# Altium schematic symbol library 769BI_LTDC.SchLib: 50 symbols
Pins are listed as number, name and electrical type; pins without a type are passive.

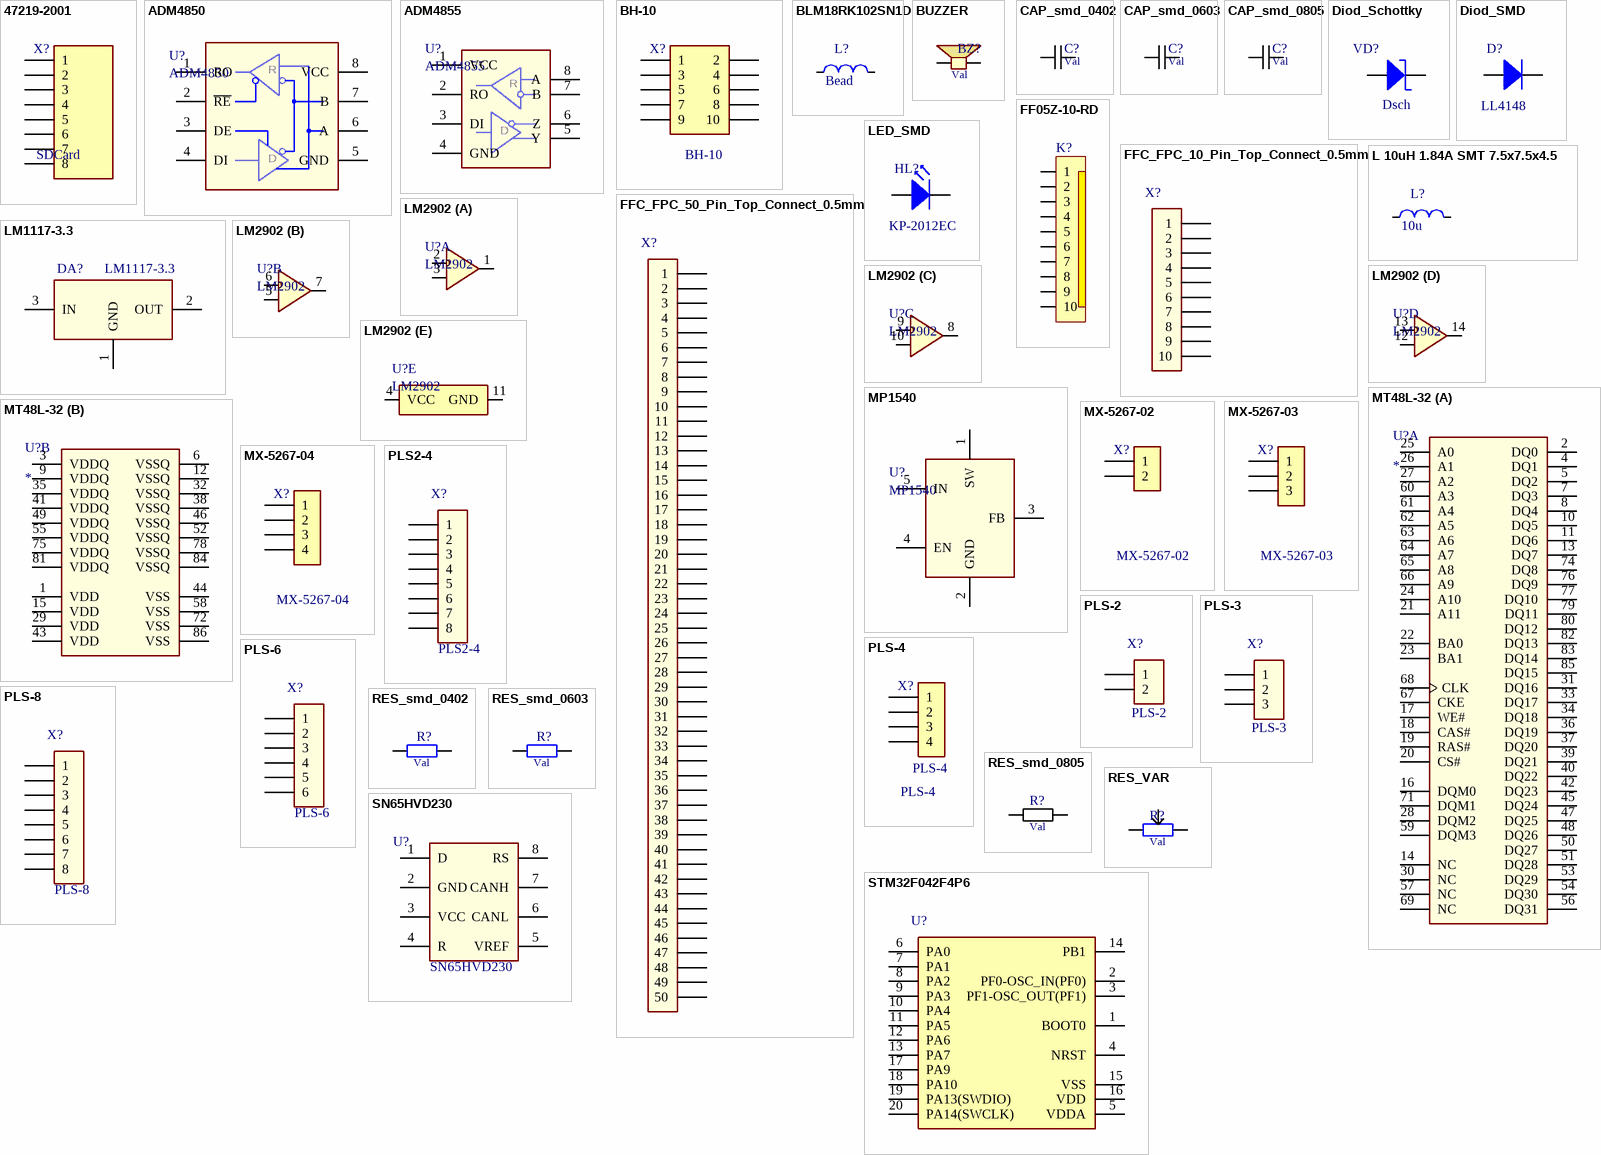
[diagram p0: symbols 47219-2001 to STM32F042F4P6]

## 47219-2001
designator X?, comment SDCard
SD_Card_Holder
footprint 47219-2001
pins: 1, 2, 3, 4, 5, 6, 7, 8

## ADM4850
designator U?
RS485-half
footprint SO8-150
pins: 1 RO, 2 ~{RE}, 3 DE, 4 DI, 5 GND, 6 A, 7 B, 8 VCC
text: R; D

## ADM4855
designator U?
RS485-full
footprint SO8-150
pins: 1 VCC, 2 RO, 3 DI, 4 GND, 5 Y, 6 Z, 7 B, 8 A
text: R; D

## BH-10
designator X?
Value: BH-10
footprint BH-10
pins: 1, 2, 3, 4, 5, 6, 7, 8, 9, 10

## BLM18RK102SN1D
designator L?, comment Bead
Ferrite Bead; Manufacturer 1: Coilcraft; Manufacturer Part Number 1: CDRH74NP-100MC/SUMIDA; Tolerance: ±20%; Operating temperature range: (-40 ... +85) °C; ComponentLink1Description: Datasheet; ComponentLink1URL: http://www.mouser.com/ds/2/390/CDRH74-514269.pdf; Supplier 1: Digikey; Value: Bead
footprint RES0603 (resistor 0603 reflow soldering)
pins: 1, 2

## BUZZER
designator BZ?, comment Val
BUZ; Value: Val
3D model Model Name (PCB3D Model)
pins: 1, 2

## CAP_smd_0402
designator C?, comment Val
Capacitor; Published: 8-Jun-2000; LatestRevisionDate: 17-Jul-2002; LatestRevisionNote: Re-released for DXP Platform.; PackageReference: RAD-0.3; Publisher: Altium Limited; PackageDescription: Radial Cap, Thru-Hole; 2 Leads; 0.3 in Pin Spacing; Value: Val
simulation model CAP (Capacitor)
signal-integrity model Cap
footprint CAP0402 (Capacitor 0402 reflow soldering)
pins: 1, 2

## CAP_smd_0603
designator C?, comment Val
Capacitor; Published: 8-Jun-2000; LatestRevisionDate: 17-Jul-2002; LatestRevisionNote: Re-released for DXP Platform.; PackageReference: RAD-0.3; Publisher: Altium Limited; PackageDescription: Radial Cap, Thru-Hole; 2 Leads; 0.3 in Pin Spacing; Value: Val
simulation model CAP (Capacitor)
signal-integrity model Cap
footprint CAP0603 (capacitor 0603 reflow soldering)
pins: 1, 2

## CAP_smd_0805
designator C?, comment Val
Capacitor; Published: 8-Jun-2000; LatestRevisionDate: 17-Jul-2002; LatestRevisionNote: Re-released for DXP Platform.; PackageReference: RAD-0.3; Publisher: Altium Limited; PackageDescription: Radial Cap, Thru-Hole; 2 Leads; 0.3 in Pin Spacing; Value: Val
simulation model CAP (Capacitor)
signal-integrity model Cap
footprint CAP0805 (capacitor 0805 reflow soldering)
pins: 1, 2

## Diod_Schottky
designator VD?  value Dsch
5.0 Amp Schottky Rectifier; Manufacturer 1: Micro Commercial Co; Manufacturer Part Number 1: SK55AFL-TP; ComponentLink1Description: Datasheet; ComponentLink1URL: http://www.mccsemi.com/up_pdf/SK52AFL-SK5200AFL(DO-221AC).pdf; Operating temperature range: (-55 ... +125) °C; Supplier 1: Digikey; Supplier Part Number 1: SK55AFL-TPMSDKR-ND; Supplier Unit Price 1: 1=0.63, 10=0.527, 25=0.462, 100=0.3955, 250=0.34304, 500=0.29056, 1000=0.224 (USD)
footprint SK55AFL-TP_LOW (Footprint not found)
footprint SK55AFL-TP_MED (Footprint not found)
footprint SK55AFL-TP_HI (Footprint not found)
footprint SK55AFL-TP_LOW (SODFL, 2-Leads, Body 2,60x5,00mm, IPC Low Density)
pins: 1 CA, 2 AN

## Diod_SMD
designator D?, comment LL4148
Manufacturer 1: Kingbright; Manufacturer Part Number 1: APT2012CGCK; ComponentLink1Description: Datasheet; ComponentLink1URL: http://www.kingbrightusa.com/images/catalog/SPEC/APT2012CGCK.pdf; Operating temperature range: (-40 ... +85) °C; Supplier 1: Digikey; Supplier Part Number 1: 754-1127-6-ND; Supplier Unit Price 1: 1=0.47, 10=0.35, 25=0.28, 100=0.1855, 250=0.13124, 500=0.11200, 1000=0.08750 (USD); Type: LL4148
footprint SOD-80
footprint SOD-80
pins: 1 AN, 2 CA

## FF05Z-10-RD
designator K?
CF20 0.5mm; Price: 0.33
footprint FF05Z-10-RD
footprint FF10Z-10-RU
pins: 0 hidden to Gnd, 0 hidden to gnd, 0 hidden to gnd, 1, 2, 3, 4, 5, 6, 7, 8, 9, 10
1 alternate drawing of the same symbol

## FFC_FPC_10_Pin_Top_Connect_0.5mm
designator X?
Touch panel connector
footprint FPC10
pins: 1, 2, 3, 4, 5, 6, 7, 8, 9, 10

## FFC_FPC_50_Pin_Top_Connect_0.5mm
designator X?
LCD TFT connector
footprint FPC50
pins: 1, 2, 3, 4, 5, 6, 7, 8, 9, 10, 11, 12, 13, 14, 15, 16, 17, 18, 19, 20, 21, 22, 23, 24, 25, 26, 27, 28, 29, 30, 31, 32, 33, 34, 35, 36, 37, 38, 39, 40, 41, 42, 43, 44, 45, 46, 47, 48, 49, 50

## L 10uH 1.84A SMT 7.5x7.5x4.5
designator L?, comment 10u
CDRH74NP-100MC/SUMIDA; Manufacturer 1: Coilcraft; Tolerance: ±20%; Operating temperature range: (-40 ... +85) °C; Manufacturer Part Number 1: CDRH74NP-100MC/SUMIDA; ComponentLink1Description: Datasheet; ComponentLink1URL: http://www.mouser.com/ds/2/390/CDRH74-514269.pdf; Supplier 1: Digikey; Value: 10u
footprint L_CDRH74-100
pins: 1, 2

## LED_SMD
designator HL?, comment KP-2012EC
LED_SMD; Manufacturer 1: Kingbright; Manufacturer Part Number 1: APT2012CGCK; ComponentLink1Description: Datasheet; ComponentLink1URL: http://www.kingbrightusa.com/images/catalog/SPEC/APT2012CGCK.pdf; Operating temperature range: (-40 ... +85) °C; Supplier 1: Digikey; Supplier Part Number 1: 754-1127-6-ND; Supplier Unit Price 1: 1=0.47, 10=0.35, 25=0.28, 100=0.1855, 250=0.13124, 500=0.11200, 1000=0.08750 (USD); Type: KP-2012EC
footprint LED
pins: 1 AN, 2 CA

## LM1117-3.3
designator DA?
Type: LM1117-3.3
footprint SOT233 (SOT223 4-Leads)
pins: 1 GND, 2 OUT (power), 3 IN (power)

## LM2902
designator U?
OA
footprint SO14-150
part A pins: 1, 2, 3
part B pins: 5, 6, 7
part C pins: 8, 9, 10
part D pins: 12, 13, 14
part E pins: 4 VCC, 11 GND

## MP1540
designator U?
footprint SOT23-5 (SOT23, 5-Leads, Body 2.9x1.3mm, Pitch 0.95mm, Lead Span 2.5mm)
pins: 1 SW, 2 GND, 3 FB, 4 EN, 5 IN

## MT48L-32
designator U?
256Mb PC133 SDR SDRAM, 16Mb x 16, 7.5ns, 3.3V, 0 to 70 degC, 54-Pin TSOP; Manufacturer: Micron; PartNumber: MT48LC16M16A2TG-75; CL: CL = 3; Clock Rate: 133 MHz; Op. Temp.: 0C to +70C; DatasheetVersion: Rev.Q; PackageVersion: Rev.Q; PackageReference: MICT-TG-54; PackageDescription: 54-Pin Thin Small Outline Package, 10.16 x 22.22 mm, Pitch 0.8 mm; Cycle Time: 7.5ns; Data Rate: PC133; Density: 256Mb; Depth: 16Mb; RoHS: 5/6; Voltage: 3.3V; Width: x16; Mounting Technology: Surface Mount; ComponentLink1Description: Manufacturer URL; ComponentLink1URL: http://www.micron.com/; ComponentLink2Description: Datasheet; ComponentLink2URL: http://www.micron.com/~/media/Documents/Products/Data%20Sheet/DRAM/256Mb_sdr.pdf; ComponentLink3Description: Package Specification; ComponentLink3URL: http://www.micron.com/~/media/Documents/Products/Data%20Sheet/DRAM/256Mb_sdr.pdf
footprint MICT-P-86_N (SOP, 86-Leads, Body 22.22x10.6mm, Pitch 0.5mm, , IPC Medium Density)
part A pins: 2 DQ0 "Data bus for x16 (pins 4, 7, 10, 13, 15, 42, 45, 48, and 51 are NC for x8; and pins 2, 4, 7, 8, 10, 13, 15, 42, 45, 47, 48, 51, and 53 are NC for x4).", 4 DQ1 "Data bus for x16 (pins 4, 7, 10, 13, 15, 42, 45, 48, and 51 are NC for x8; and pins 2, 4, 7, 8, 10, 13, 15, 42, 45, 47, 48, 51, and 53 are NC for x4).", 5 DQ2 "Data bus for x16 (pins 4, 7, 10, 13, 15, 42, 45, 48, and 51 are NC for x8; and pins 2, 4, 7, 8, 10, 13, 15, 42, 45, 47, 48, 51, and 53 are NC for x4).", 7 DQ3 "Data bus for x16 (pins 4, 7, 10, 13, 15, 42, 45, 48, and 51 are NC for x8; and pins 2, 4, 7, 8, 10, 13, 15, 42, 45, 47, 48, 51, and 53 are NC for x4).", 8 DQ4 "Data bus for x16 (pins 4, 7, 10, 13, 15, 42, 45, 48, and 51 are NC for x8; and pins 2, 4, 7, 8, 10, 13, 15, 42, 45, 47, 48, 51, and 53 are NC for x4).", 10 DQ5 "Data bus for x16 (pins 4, 7, 10, 13, 15, 42, 45, 48, and 51 are NC for x8; and pins 2, 4, 7, 8, 10, 13, 15, 42, 45, 47, 48, 51, and 53 are NC for x4).", 11 DQ6 "Data bus for x16 (pins 4, 7, 10, 13, 15, 42, 45, 48, and 51 are NC for x8; and pins 2, 4, 7, 8, 10, 13, 15, 42, 45, 47, 48, 51, and 53 are NC for x4).", 13 DQ7 "Data bus for x16 (pins 4, 7, 10, 13, 15, 42, 45, 48, and 51 are NC for x8; and pins 2, 4, 7, 8, 10, 13, 15, 42, 45, 47, 48, 51, and 53 are NC for x4).", 14 NC "These should be left unconnected", 16 DQM0 "Onthe x16, DQML corresponds to DQ[7:0], and DQMH corresponds to DQ[15:8]. DQML andDQMH are considered same state when referenced as DQM", 17 WE# "define the command being entered", 18 CAS# "define the command being entered", 19 RAS# "define the command being entered", 20 CS# "CS# enables (registered LOW) and disables (registered HIGH) the command decoder. All commands are masked when CS# is registered HIGH, but READ/WRITE bursts already in progress will continue, and DQM operation will retain its (See Datasheet)", 21 A11 "A[12:0] are sampled during the ACTIVE command (row address A[12:0]) andREAD or WRITE command (column address A[9:0], A11, and A12 for x4; A[9:0] and A11 for x8; A[9:0] for x16; with A10 defining auto precharge) to select one (See Datasheet)", 22 BA0 "BA[1:0] define to which bank the ACTIVE, READ, WRITE, or PRECHARGE command is being applied.", 23 BA1 "BA[1:0] define to which bank the ACTIVE, READ, WRITE, or PRECHARGE command is being applied.", 24 A10 "A[12:0] are sampled during the ACTIVE command (row address A[12:0]) andREAD or WRITE command (column address A[9:0], A11, and A12 for x4; A[9:0] and A11 for x8; A[9:0] for x16; with A10 defining auto precharge) to select one (See Datasheet)", 25 A0 "A[12:0] are sampled during the ACTIVE command (row address A[12:0]) andREAD or WRITE command (column address A[9:0], A11, and A12 for x4; A[9:0] and A11 for x8; A[9:0] for x16; with A10 defining auto precharge) to select one (See Datasheet)", 26 A1 "A[12:0] are sampled during the ACTIVE command (row address A[12:0]) andREAD or WRITE command (column address A[9:0], A11, and A12 for x4; A[9:0] and A11 for x8; A[9:0] for x16; with A10 defining auto precharge) to select one (See Datasheet)", 27 A2 "A[12:0] are sampled during the ACTIVE command (row address A[12:0]) andREAD or WRITE command (column address A[9:0], A11, and A12 for x4; A[9:0] and A11 for x8; A[9:0] for x16; with A10 defining auto precharge) to select one (See Datasheet)", 28 DQM2 "Onthe x16, DQML corresponds to DQ[7:0], and DQMH corresponds to DQ[15:8]. DQML andDQMH are considered same state when referenced as DQM", 30 NC "These should be left unconnected", 31 DQ16 "Data bus for x16 (pins 4, 7, 10, 13, 15, 42, 45, 48, and 51 are NC for x8; and pins 2, 4, 7, 8, 10, 13, 15, 42, 45, 47, 48, 51, and 53 are NC for x4).", 33 DQ17 "Data bus for x16 (pins 4, 7, 10, 13, 15, 42, 45, 48, and 51 are NC for x8; and pins 2, 4, 7, 8, 10, 13, 15, 42, 45, 47, 48, 51, and 53 are NC for x4).", 34 DQ18 "Data bus for x16 (pins 4, 7, 10, 13, 15, 42, 45, 48, and 51 are NC for x8; and pins 2, 4, 7, 8, 10, 13, 15, 42, 45, 47, 48, 51, and 53 are NC for x4).", 36 DQ19 "Data bus for x16 (pins 4, 7, 10, 13, 15, 42, 45, 48, and 51 are NC for x8; and pins 2, 4, 7, 8, 10, 13, 15, 42, 45, 47, 48, 51, and 53 are NC for x4).", 37 DQ20 "Data bus for x16 (pins 4, 7, 10, 13, 15, 42, 45, 48, and 51 are NC for x8; and pins 2, 4, 7, 8, 10, 13, 15, 42, 45, 47, 48, 51, and 53 are NC for x4).", 39 DQ21 "Data bus for x16 (pins 4, 7, 10, 13, 15, 42, 45, 48, and 51 are NC for x8; and pins 2, 4, 7, 8, 10, 13, 15, 42, 45, 47, 48, 51, and 53 are NC for x4).", 40 DQ22 "Data bus for x16 (pins 4, 7, 10, 13, 15, 42, 45, 48, and 51 are NC for x8; and pins 2, 4, 7, 8, 10, 13, 15, 42, 45, 47, 48, 51, and 53 are NC for x4).", 42 DQ23 "Data bus for x16 (pins 4, 7, 10, 13, 15, 42, 45, 48, and 51 are NC for x8; and pins 2, 4, 7, 8, 10, 13, 15, 42, 45, 47, 48, 51, and 53 are NC for x4).", 45 DQ24 "Data bus for x16 (pins 4, 7, 10, 13, 15, 42, 45, 48, and 51 are NC for x8; and pins 2, 4, 7, 8, 10, 13, 15, 42, 45, 47, 48, 51, and 53 are NC for x4).", 47 DQ25 "Data bus for x16 (pins 4, 7, 10, 13, 15, 42, 45, 48, and 51 are NC for x8; and pins 2, 4, 7, 8, 10, 13, 15, 42, 45, 47, 48, 51, and 53 are NC for x4).", 48 DQ26 "Data bus for x16 (pins 4, 7, 10, 13, 15, 42, 45, 48, and 51 are NC for x8; and pins 2, 4, 7, 8, 10, 13, 15, 42, 45, 47, 48, 51, and 53 are NC for x4).", 50 DQ27 "Data bus for x16 (pins 4, 7, 10, 13, 15, 42, 45, 48, and 51 are NC for x8; and pins 2, 4, 7, 8, 10, 13, 15, 42, 45, 47, 48, 51, and 53 are NC for x4).", 51 DQ28 "Data bus for x16 (pins 4, 7, 10, 13, 15, 42, 45, 48, and 51 are NC for x8; and pins 2, 4, 7, 8, 10, 13, 15, 42, 45, 47, 48, 51, and 53 are NC for x4).", 53 DQ29 "Data bus for x16 (pins 4, 7, 10, 13, 15, 42, 45, 48, and 51 are NC for x8; and pins 2, 4, 7, 8, 10, 13, 15, 42, 45, 47, 48, 51, and 53 are NC for x4).", 54 DQ30 "Data bus for x16 (pins 4, 7, 10, 13, 15, 42, 45, 48, and 51 are NC for x8; and pins 2, 4, 7, 8, 10, 13, 15, 42, 45, 47, 48, 51, and 53 are NC for x4).", 56 DQ31 "Data bus for x16 (pins 4, 7, 10, 13, 15, 42, 45, 48, and 51 are NC for x8; and pins 2, 4, 7, 8, 10, 13, 15, 42, 45, 47, 48, 51, and 53 are NC for x4).", 57 NC "These should be left unconnected", 59 DQM3 "Onthe x16, DQML corresponds to DQ[7:0], and DQMH corresponds to DQ[15:8]. DQML andDQMH are considered same state when referenced as DQM", 60 A3 "A[12:0] are sampled during the ACTIVE command (row address A[12:0]) andREAD or WRITE command (column address A[9:0], A11, and A12 for x4; A[9:0] and A11 for x8; A[9:0] for x16; with A10 defining auto precharge) to select one (See Datasheet)", 61 A4 "A[12:0] are sampled during the ACTIVE command (row address A[12:0]) andREAD or WRITE command (column address A[9:0], A11, and A12 for x4; A[9:0] and A11 for x8; A[9:0] for x16; with A10 defining auto precharge) to select one (See Datasheet)", 62 A5 "A[12:0] are sampled during the ACTIVE command (row address A[12:0]) andREAD or WRITE command (column address A[9:0], A11, and A12 for x4; A[9:0] and A11 for x8; A[9:0] for x16; with A10 defining auto precharge) to select one (See Datasheet)", 63 A6 "A[12:0] are sampled during the ACTIVE command (row address A[12:0]) andREAD or WRITE command (column address A[9:0], A11, and A12 for x4; A[9:0] and A11 for x8; A[9:0] for x16; with A10 defining auto precharge) to select one (See Datasheet)", 64 A7 "A[12:0] are sampled during the ACTIVE command (row address A[12:0]) andREAD or WRITE command (column address A[9:0], A11, and A12 for x4; A[9:0] and A11 for x8; A[9:0] for x16; with A10 defining auto precharge) to select one (See Datasheet)", 65 A8 "A[12:0] are sampled during the ACTIVE command (row address A[12:0]) andREAD or WRITE command (column address A[9:0], A11, and A12 for x4; A[9:0] and A11 for x8; A[9:0] for x16; with A10 defining auto precharge) to select one (See Datasheet)", 66 A9 "A[12:0] are sampled during the ACTIVE command (row address A[12:0]) andREAD or WRITE command (column address A[9:0], A11, and A12 for x4; A[9:0] and A11 for x8; A[9:0] for x16; with A10 defining auto precharge) to select one (See Datasheet)", 67 CKE "CKE activates (HIGH) and deactivates (LOW) the CLK signal. Deactivating theclock provides precharge power-down and SELF REFRESH operation (all banks idle), activepower-down (row active in any bank), or CLOCK SUSPEND (See Datasheet)", 68 CLK "CLK is driven by the system clock. All SDRAM input signals are sampled on the positive edge of CLK. CLK also increments the internal burst counter and controls the output registers", 69 NC "These should be left unconnected", 71 DQM1 "Onthe x16, DQML corresponds to DQ[7:0], and DQMH corresponds to DQ[15:8]. DQML andDQMH are considered same state when referenced as DQM", 74 DQ8 "Data bus for x16 (pins 4, 7, 10, 13, 15, 42, 45, 48, and 51 are NC for x8; and pins 2, 4, 7, 8, 10, 13, 15, 42, 45, 47, 48, 51, and 53 are NC for x4).", 76 DQ9 "Data bus for x16 (pins 4, 7, 10, 13, 15, 42, 45, 48, and 51 are NC for x8; and pins 2, 4, 7, 8, 10, 13, 15, 42, 45, 47, 48, 51, and 53 are NC for x4).", 77 DQ10 "Data bus for x16 (pins 4, 7, 10, 13, 15, 42, 45, 48, and 51 are NC for x8; and pins 2, 4, 7, 8, 10, 13, 15, 42, 45, 47, 48, 51, and 53 are NC for x4).", 79 DQ11 "Data bus for x16 (pins 4, 7, 10, 13, 15, 42, 45, 48, and 51 are NC for x8; and pins 2, 4, 7, 8, 10, 13, 15, 42, 45, 47, 48, 51, and 53 are NC for x4).", 80 DQ12 "Data bus for x16 (pins 4, 7, 10, 13, 15, 42, 45, 48, and 51 are NC for x8; and pins 2, 4, 7, 8, 10, 13, 15, 42, 45, 47, 48, 51, and 53 are NC for x4).", 82 DQ13 "Data bus for x16 (pins 4, 7, 10, 13, 15, 42, 45, 48, and 51 are NC for x8; and pins 2, 4, 7, 8, 10, 13, 15, 42, 45, 47, 48, 51, and 53 are NC for x4).", 83 DQ14 "Data bus for x16 (pins 4, 7, 10, 13, 15, 42, 45, 48, and 51 are NC for x8; and pins 2, 4, 7, 8, 10, 13, 15, 42, 45, 47, 48, 51, and 53 are NC for x4).", 85 DQ15 "Data bus for x16 (pins 4, 7, 10, 13, 15, 42, 45, 48, and 51 are NC for x8; and pins 2, 4, 7, 8, 10, 13, 15, 42, 45, 47, 48, 51, and 53 are NC for x4)."
part B pins: 1 VDD (power) "+3.3V +/-0.3V.", 3 VDDQ (power) "DQ power to the die for improved noise immunity", 6 VSSQ (power) "DQ ground to the die for improved noise immunity", 9 VDDQ (power) "DQ power to the die for improved noise immunity", 12 VSSQ (power) "DQ ground to the die for improved noise immunity", 15 VDD (power) "+3.3V +/-0.3V.", 29 VDD (power) "+3.3V +/-0.3V.", 32 VSSQ (power) "DQ ground to the die for improved noise immunity", 35 VDDQ (power) "DQ power to the die for improved noise immunity", 38 VSSQ (power) "DQ ground to the die for improved noise immunity", 41 VDDQ (power) "DQ power to the die for improved noise immunity", 43 VDD (power) "+3.3V +/-0.3V.", 44 VSS (power) "Ground", 46 VSSQ (power) "DQ ground to the die for improved noise immunity", 49 VDDQ (power) "DQ power to the die for improved noise immunity", 52 VSSQ (power) "DQ ground to the die for improved noise immunity", 55 VDDQ (power) "DQ power to the die for improved noise immunity", 58 VSS (power) "Ground", 72 VSS (power) "Ground", 75 VDDQ (power) "DQ power to the die for improved noise immunity", 78 VSSQ (power) "DQ ground to the die for improved noise immunity", 81 VDDQ (power) "DQ power to the die for improved noise immunity", 84 VSSQ (power) "DQ ground to the die for improved noise immunity", 86 VSS (power) "Ground"

## MX-5267-02
designator X?
Molex_2pin
footprint MX-5267-02
pins: 1, 2

## MX-5267-03
designator X?
Molex_3pin
footprint MX-5267-03
pins: 1, 2, 3

## MX-5267-04
designator X?
Molex_4pin
footprint MX-5267-04
pins: 1, 2, 3, 4

## PLS2-4
designator X?
Type: PLS2-4
footprint PLS2x4
pins: 1, 2, 3, 4, 5, 6, 7, 8

## PLS-2
designator X?  value PLS-2
PLS-2
footprint PLC-2
pins: 1, 2

## PLS-3
designator X?  value PLS-3
PLS-3
footprint PLC-3
pins: 1, 2, 3

## PLS-4
designator X?
Value: PLS-4
footprint PLC-4
pins: 1, 2, 3, 4

## PLS-6
designator X?
Type: PLS-6
footprint PLC-6
pins: 1, 2, 3, 4, 5, 6

## PLS-8
designator X?
Type: PLS-8
footprint PLC-8
pins: 1, 2, 3, 4, 5, 6, 7, 8

## RES_smd_0402
designator R?, comment Val
Resistor; Published: 8-Jun-2000; LatestRevisionNote: Re-released for DXP Platform.; PackageReference: AXIAL-0.4; Publisher: Altium Limited; PackageDescription: Axial Device, Thru-Hole; 2 Leads; 0.4 in Pin Spacing; LatestRevisionDate: 17-Jul-2002; Value: Val
simulation model RESISTOR (Resistor)
signal-integrity model Res
footprint RES0402 (resistor 0402 reflow soldering)
pins: 1, 2

## RES_smd_0603
designator R?, comment Val
Resistor; Published: 8-Jun-2000; LatestRevisionNote: Re-released for DXP Platform.; PackageReference: AXIAL-0.4; Publisher: Altium Limited; PackageDescription: Axial Device, Thru-Hole; 2 Leads; 0.4 in Pin Spacing; LatestRevisionDate: 17-Jul-2002; Value: Val
simulation model RESISTOR (Resistor)
signal-integrity model Res
footprint RES0603 (resistor 0603 reflow soldering)
pins: 1, 2

## RES_smd_0805
designator R?, comment Val
Resistor; Value: Val
footprint RES0805 (resistor 0805 wave soldering)
pins: 1, 2

## RES_VAR
designator R?, comment Val
Resistor; Value: Val
simulation model RESISTOR (Resistor)
signal-integrity model Res
footprint RES_VAR
pins: 1, 2, 3

## SN65HVD230
designator U?  value SN65HVD230  (hidden comment: *)
CAN_driver
footprint SO8-150
pins: 1 D, 2 GND, 3 VCC, 4 R, 5 VREF, 6 CANL, 7 CANH, 8 RS

## STM32F042F4P6
designator U?
ARM Cortex-M0 32-bit MCU, 16 KB Flash, 4 KB Internal RAM, 15 I/Os, 20-pin TSSOP, -40 to 85 degC, Tube; PartNumber: STM32F030F4P6; FLASH Size (Prog) (kB): 16; I/Os (High Current): 15; Internal RAM Size (kB): 4; Operating Frequency(F) (Processor speed) (MHz): 48; Supply Voltage(Vcc) min (V): 2.4; DatasheetVersion: Rev. 1; PackageVersion: Rev. 1, 11/2012; PackageReference: TSSOP20; PackageDescription: 20-Pin Thin Shrink Small Outline Package, 6.5 x 4.4 mm Body, 0.65 mm Pitch; Supplier 1: Digi-Key; Supplier Part Number 1: 497-14044-5-ND; Supplier 2: Newark; Supplier Part Number 2: 06X3648; Supplier 3: Mouser; Supplier Part Number 3: 511-STM32F030F4P6; Core: ARM Cortex-M0; Packing: Tube; Mounting Technology: Surface Mount; ComponentLink1Description: Manufacturer URL; ComponentLink1URL: http://www.st.com/web/en/home.html; ComponentLink2Description: Datasheet; ComponentLink2URL: http://www.st.com/st-web-ui/static/active/en/resource/technical/document/datasheet/DM00088500.pdf; ComponentLink3Description: Package Specification; ComponentLink3URL: http://www.st.com/st-web-ui/static/active/en/resource/technical/document/datasheet/DM00065136.pdf
footprint STM-TSSOP20_M (SOP, 20-Leads, Body 6.6x4.5mm, Pitch 0.65mm, IPC Low Density)
pins: 1 BOOT0 "Boot memory selection", 2 PF0-OSC_IN(PF0) "PF0-OSC_IN(PF0)/OSC_IN", 3 PF1-OSC_OUT(PF1) "PF1-OSC_OUT(PF1)/OSC_OUT", 4 NRST "Device reset input / internal reset output (active low)", 5 VDDA (power) "Analog power supply", 6 PA0 "PA0/USART1_CTS/ADC_IN0,RTC_TAMP2,WKUP1", 7 PA1 "PA1/USART1_RTS,EVENTOUT/ADC_IN1", 8 PA2 "PA2/USART1_TX/ADC_IN2", 9 PA3 "PA3/USART1_RX/ADC_IN3", 10 PA4 "PA4/SPI1_NSS,USART1_CK,TIM14_CH1/ADC_IN4", 11 PA5 "PA5/SPI1_SCK/ADC_IN5", 12 PA6 "PA6/SPI1_MISO,TIM3_CH1,TIM1_BKIN,TIM16_CH1,EVENTOUT/ADC_IN6", 13 PA7 "PA7/SPI1_MOSI,TIM3_CH2,TIM14_CH1,TIM1_CH1N,TIM17_CH1,EVENTOUT/ADC_IN7", 14 PB1 "PB1/TIM3_CH4,TIM14_CH1,TIM1_CH3N/ADC_IN9", 15 VSS (power) "Ground", 16 VDD (power) "Digital power supply", 17 PA9 "PA9/USART1_TX,TIM1_CH2,I2C1_SCL", 18 PA10 "PA10/USART1_RX,TIM1_CH3,TIM17_BKIN,I2C1_SDA", 19 PA13(SWDIO) "PA13(SWDIO)/IR_OUT,SWDIO", 20 PA14(SWCLK) "PA14(SWCLK)/USART1_TX,SWCLK"

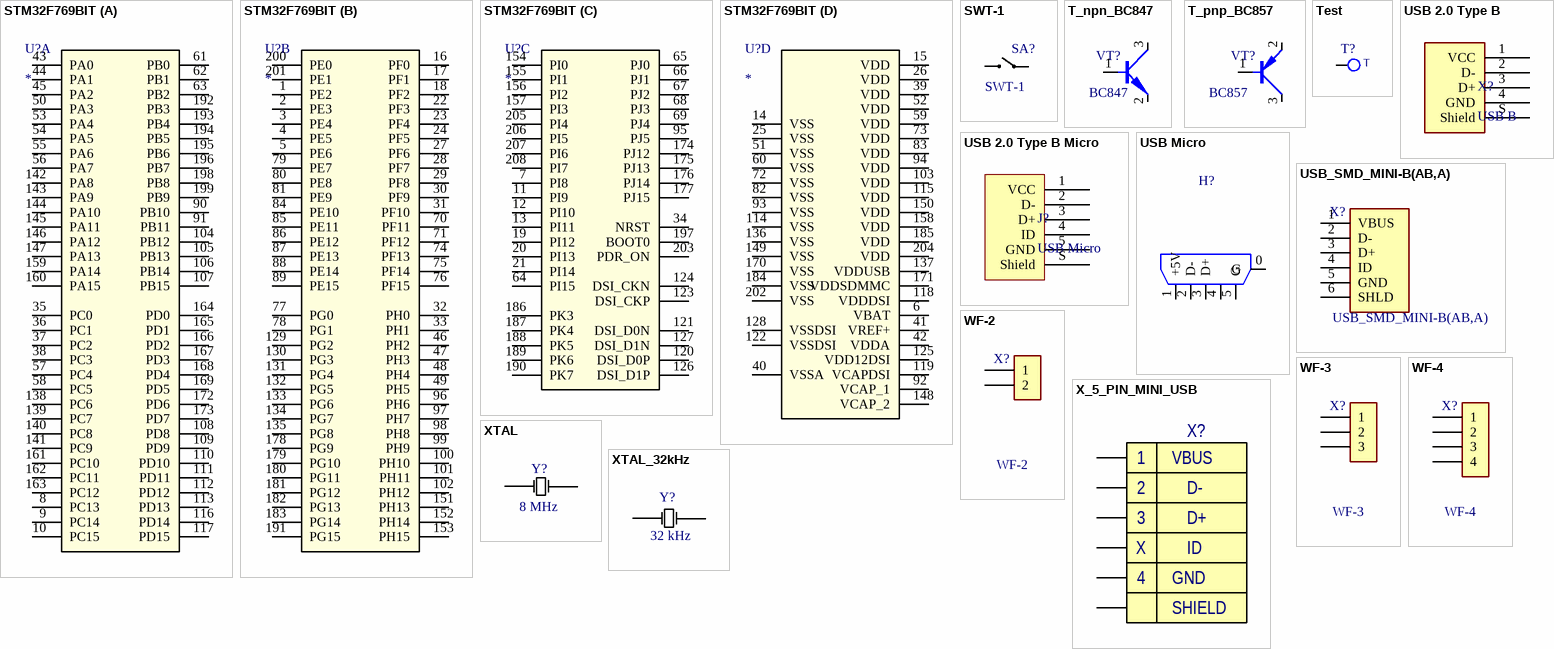
[diagram p1: symbols STM32F769BIT to XTAL_32kHz]

## STM32F769BIT
designator U?
STM32F769BI; Manufacturer_Part_Number: stm32f769bxt; Vendor: STMicroelectronics; C: Copyright (C) 2016 Accelerated Designs. All rights reserved; Copyright: Copyright (C) 2016 Accelerated Designs. All rights reserved; Value: Value; Type: Type; RefDes: RefDes
footprint STM-LQFP208_M (QFP, 208-Leads, Body 28x28mm, Pitch 0.5mm, IPC Low Density)
part A pins: 8 PC13, 9 PC14, 10 PC15, 35 PC0, 36 PC1, 37 PC2, 38 PC3, 43 PA0, 44 PA1, 45 PA2, 50 PA3, 53 PA4, 54 PA5, 55 PA6, 56 PA7, 57 PC4, 58 PC5, 61 PB0, 62 PB1, 63 PB2, 90 PB10, 91 PB11, 104 PB12, 105 PB13, 106 PB14, 107 PB15, 108 PD8, 109 PD9, 110 PD10, 111 PD11, 112 PD12, 113 PD13, 116 PD14, 117 PD15, 138 PC6, 139 PC7, 140 PC8, 141 PC9, 142 PA8, 143 PA9, 144 PA10, 145 PA11, 146 PA12, 147 PA13, 159 PA14, 160 PA15, 161 PC10, 162 PC11, 163 PC12, 164 PD0, 165 PD1, 166 PD2, 167 PD3, 168 PD4, 169 PD5, 172 PD6, 173 PD7, 192 PB3, 193 PB4, 194 PB5, 195 PB6, 196 PB7, 198 PB8, 199 PB9
part B pins: 1 PE2, 2 PE3, 3 PE4, 4 PE5, 5 PE6, 16 PF0, 17 PF1, 18 PF2, 22 PF3, 23 PF4, 24 PF5, 27 PF6, 28 PF7, 29 PF8, 30 PF9, 31 PF10, 32 PH0, 33 PH1, 46 PH2, 47 PH3, 48 PH4, 49 PH5, 70 PF11, 71 PF12, 74 PF13, 75 PF14, 76 PF15, 77 PG0, 78 PG1, 79 PE7, 80 PE8, 81 PE9, 84 PE10, 85 PE11, 86 PE12, 87 PE13, 88 PE14, 89 PE15, 96 PH6, 97 PH7, 98 PH8, 99 PH9, 100 PH10, 101 PH11, 102 PH12, 129 PG2, 130 PG3, 131 PG4, 132 PG5, 133 PG6, 134 PG7, 135 PG8, 151 PH13, 152 PH14, 153 PH15, 178 PG9, 179 PG10, 180 PG11, 181 PG12, 182 PG13, 183 PG14, 191 PG15, 200 PE0, 201 PE1
part C pins: 7 PI8, 11 PI9, 12 PI10, 13 PI11, 19 PI12, 20 PI13, 21 PI14, 34 NRST, 64 PI15, 65 PJ0, 66 PJ1, 67 PJ2, 68 PJ3, 69 PJ4, 95 PJ5, 120 DSI_D0P, 121 DSI_D0N, 123 DSI_CKP, 124 DSI_CKN, 126 DSI_D1P, 127 DSI_D1N, 154 PI0, 155 PI1, 156 PI2, 157 PI3, 174 PJ12, 175 PJ13, 176 PJ14, 177 PJ15, 186 PK3, 187 PK4, 188 PK5, 189 PK6, 190 PK7, 197 BOOT0, 203 PDR_ON, 205 PI4, 206 PI5, 207 PI6, 208 PI7
part D pins: 6 VBAT (power), 14 VSS (power), 15 VDD (power), 25 VSS (power), 26 VDD (power), 39 VDD (power), 40 VSSA (power), 41 VREF+ (power), 42 VDDA (power), 51 VSS (power), 52 VDD (power), 59 VDD (power), 60 VSS (power), 72 VSS (power), 73 VDD (power), 82 VSS (power), 83 VDD (power), 92 VCAP_1 (power), 93 VSS (power), 94 VDD (power), 103 VDD (power), 114 VSS (power), 115 VDD (power), 118 VDDDSI (power), 119 VCAPDSI (power), 122 VSSDSI (power), 125 VDD12DSI (power), 128 VSSDSI (power), 136 VSS (power), 137 VDDUSB (power), 148 VCAP_2 (power), 149 VSS (power), 150 VDD (power), 158 VDD (power), 170 VSS (power), 171 VDDSDMMC (power), 184 VSS (power), 185 VDD (power), 202 VSS (power), 204 VDD (power)

## SWT-1
designator SA?
Button; Published: 8-Jun-2000; LatestRevisionDate: 17-Jul-2002; LatestRevisionNote: Re-released for DXP Platform.; PackageReference: R38; Publisher: Altium Limited; PackageDescription: Crystal, Thru-Hole; 2 Leads; Body 3.1 x 8.2 mm (Dia.xH); Value: SWT-1
footprint SWT-1
pins: 1 OSC1, 2 OSC2

## T_npn_BC847
designator VT?, comment value BC847  (hidden comment: T_npn)
footprint SOT23 (SOT-23; 3 Leads; Body 3.0 x 2.6 mm Pitch 0.95mm)
pins: 1 B, 2 E (oe), 3 C (oc)

## T_pnp_BC857
designator VT?, comment BC857
T_pnp; Value: BC857
footprint SOT23 (SOT-23; 3 Leads; Body 3.0 x 2.6 mm Pitch 0.95mm)
pins: 1 B, 2 E (oe), 3 C (oc)

## Test
designator T?, comment T
Test; Value: T
footprint Test
pins: 1

## USB 2.0 Type B
designator X?, comment USB B
footprint USB 61729-0010BLF
pins: 1 VCC, 2 D-, 3 D+, 4 GND, S Shield

## USB 2.0 Type B Micro
designator J?, comment USB Micro
footprint USB Micro
pins: 1 VCC, 2 D-, 3 D+, 4 ID, 5 GND, S Shield

## USB Micro
designator H?
USB B Micro R/A SMD; Price: 0.90
footprint USB Micro
pins: 0 G, 1 +5V, 2 D-, 3 D+, 4, 5 G

## USB_SMD_MINI-B(AB,A)
designator X?
footprint USB_SMD_MINI-B(AB,A)
pins: 1 VBUS, 2 D-, 3 D+, 4 ID, 5 GND, 6 SHLD

## WF-2
designator X?
footprint WF-2
pins: 1, 2

## WF-3
designator X?
footprint WF-3
pins: 1, 2, 3

## WF-4
designator X?
footprint WF-4
pins: 1, 2, 3, 4

## X_5_PIN_MINI_USB
designator X?
footprint USB_MINI5PIN
pins: 1 "RED", 2 "WHITE", 3 "GREEN", 4 "BLACK", SHIELD, X
text: VBUS; D-; D+; ID; GND

## XTAL
designator Y?, comment 8 MHz
Crystal Oscillator; Published: 8-Jun-2000; LatestRevisionDate: 17-Jul-2002; LatestRevisionNote: Re-released for DXP Platform.; PackageReference: R38; Publisher: Altium Limited; PackageDescription: Crystal, Thru-Hole; 2 Leads; Body 3.1 x 8.2 mm (Dia.xH); Value: 8 MHz
footprint OSC_8
pins: 1 OSC1, 2 OSC2

## XTAL_32kHz
designator Y?, comment 32 kHz
Crystal Oscillator; Published: 8-Jun-2000; LatestRevisionDate: 17-Jul-2002; LatestRevisionNote: Re-released for DXP Platform.; PackageReference: R38; Publisher: Altium Limited; PackageDescription: Crystal, Thru-Hole; 2 Leads; Body 3.1 x 8.2 mm (Dia.xH); Value: 32 kHz
footprint OSC_32kHz
pins: 1 OSC1, 2 OSC2